# EAGLE library part AD7689 (library CougsInSpace-IC-Conversion)
AD7689 16b ADC with 8 single-ended or 4 differential channels. SPI interface
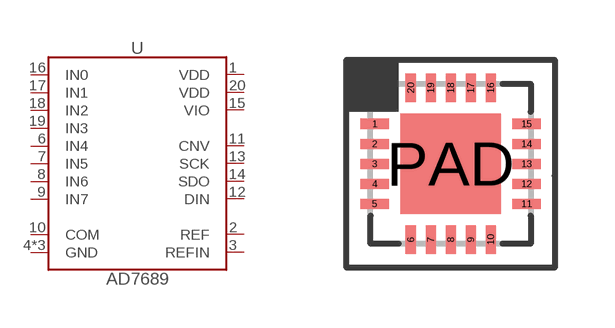
[diagram p3: symbol with the pads of QFN-20-4040; footprint QFN-20-4040]

Designator prefix U

## AD7689 (SKU: 27-0004; VALUE: AD7689)  [QFN-20-4040]
1  VDD  pwr
2  REF
3  REFIN
4  GND  pwr
5  GND  pwr
6  IN4  in
7  IN5  in
8  IN6  in
9  IN7  in
10  COM  in
11  CNV  in
12  DIN  in
13  SCK  in
14  SDO  out
15  VIO  pwr
16  IN0  in
17  IN1  in
18  IN2  in
19  IN3  in
20  VDD  pwr
PAD  GND  pwr

## Footprint QFN-20-4040 (pad centres in mm)
Quad Flat No-Leads (QFN) - 20 pins - 4.0 x 4.0 mm
smd 0.7 x 0.25: 1 -1.9,1; 2 -1.9,0.5; 3 -1.9,0; 4 -1.9,-0.5; 5 -1.9,-1; 11 1.9,-1; 12 1.9,-0.5; 13 1.9,0; 14 1.9,0.5; 15 1.9,1
smd 0.25 x 0.7: 6 -1,-1.9; 7 -0.5,-1.9; 8 0,-1.9; 9 0.5,-1.9; 10 1,-1.9; 16 1,1.9; 17 0.5,1.9; 18 0,1.9; 19 -0.5,1.9; 20 -1,1.9
smd 2.5 x 2.5: PAD 0,0